# Altium schematic symbol library Connector.SchLib: 12 symbols
Pins are listed as number, name and electrical type; pins without a type are passive.

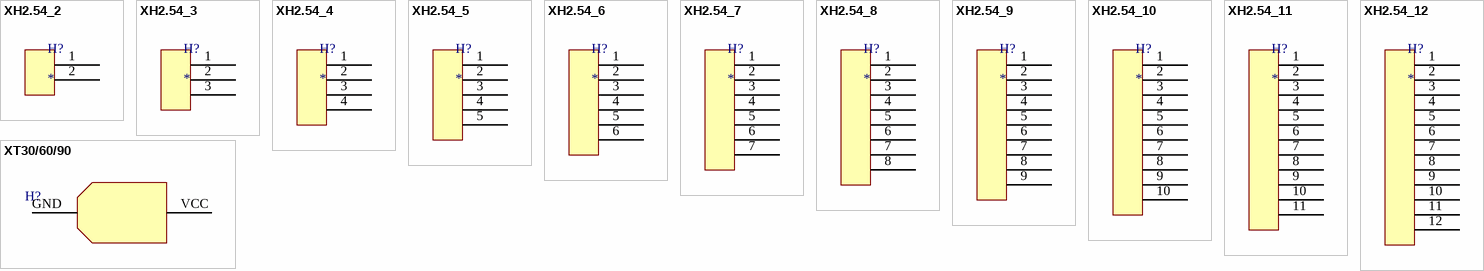
[diagram p0: symbols XH2.54_2 to XT30/60/90]

## XH2.54_2
designator H?
footprint XH_TH_TOP_2 (JST XH, Through Hole, Top Mount, 2Pin)
pins: 1, 2

## XH2.54_3
designator H?
footprint XH_TH_TOP_3 (JST XH, Through Hole, Top Mount, 3Pin)
pins: 1, 2, 3

## XH2.54_4
designator H?
footprint XH_TH_TOP_4 (JST XH, Through Hole, Top Mount, 4Pin)
pins: 1, 2, 3, 4

## XH2.54_5
designator H?
footprint XH_TH_TOP_5 (JST XH, Through Hole, Top Mount, 5Pin)
pins: 1, 2, 3, 4, 5

## XH2.54_6
designator H?
footprint XH_TH_TOP_6 (JST XH, Through Hole, Top Mount, 6Pin)
pins: 1, 2, 3, 4, 5, 6

## XH2.54_7
designator H?
footprint XH_TH_TOP_7 (JST XH, Through Hole, Top Mount, 7Pin)
pins: 1, 2, 3, 4, 5, 6, 7

## XH2.54_8
designator H?
footprint XH_TH_TOP_8 (JST XH, Through Hole, Top Mount, 8Pin)
pins: 1, 2, 3, 4, 5, 6, 7, 8

## XH2.54_9
designator H?
footprint XH_TH_TOP_9 (JST XH, Through Hole, Top Mount, 9Pin)
pins: 1, 2, 3, 4, 5, 6, 7, 8, 9

## XH2.54_10
designator H?
footprint XH_TH_TOP_10 (JST XH, Through Hole, Top Mount, 10Pin)
pins: 1, 2, 3, 4, 5, 6, 7, 8, 9, 10

## XH2.54_11
designator H?
footprint XH_TH_TOP_11 (JST XH, Through Hole, Top Mount, 11Pin)
pins: 1, 2, 3, 4, 5, 6, 7, 8, 9, 10, 11

## XH2.54_12
designator H?
footprint XH_TH_TOP_12 (JST XH, Through Hole, Top Mount, 12Pin)
pins: 1, 2, 3, 4, 5, 6, 7, 8, 9, 10, 11, 12

## XT30/60/90
designator H?  (value not drawn)
footprint XT60PB-M
footprint XT60PB-F
footprint XT30UPB-F
footprint XT30UPB-M
pins: GND (power), VCC (power)